# Altium schematic symbol library 1206ZD475MAT2A.SchLib: 1 symbol
Pins are listed as number, name and electrical type; pins without a type are passive.

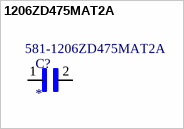
[diagram p0: symbol 1206ZD475MAT2A]

## 1206ZD475MAT2A
designator C?  Supplier Part Number 1: 581-1206ZD475MAT2A
1206 4.7 uF 10 V Â±20 % Tolerance X5R SMT Multilayer Ceramic Capacitor; MP: 1206ZD475MAT2A; MF: AVX; Value: *; SnapEDA_Link: https://www.snapeda.com/parts/1206ZD475MAT2A/AVX/view-part/1775058/?ref=snap; Check_prices: https://www.snapeda.com/parts/1206ZD475MAT2A/AVX/view-part/1775058/?ref=eda; Purchase-URL: https://pricing.snapeda.com/search/part/1206ZD475MAT2A/?ref=eda; Availability: Good; Price: None; Package: 3216 AVX; Supplier 1: Mouser
footprint CAPC3216X178N
pins: 1, 2